# Altium schematic symbol library RotarySwitch.SchLib: 1 symbol
Pins are listed as number, name and electrical type; pins without a type are passive.

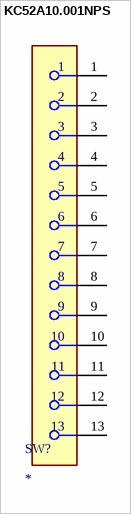
[diagram p0: symbol KC52A10.001NPS]

## KC52A10.001NPS
designator SW?
Rotary Switch 12 Position SP12T 350mA (AC) 125 VAC Panel Mount, Through Hole
footprint PCBComponent_1
pins: 1, 2, 3, 4, 5, 6, 7, 8, 9, 10, 11, 12, 13